# Altium schematic symbol library IMU_REV_C.SCHLIB: 11 symbols
Pins are listed as number, name and electrical type; pins without a type are passive.

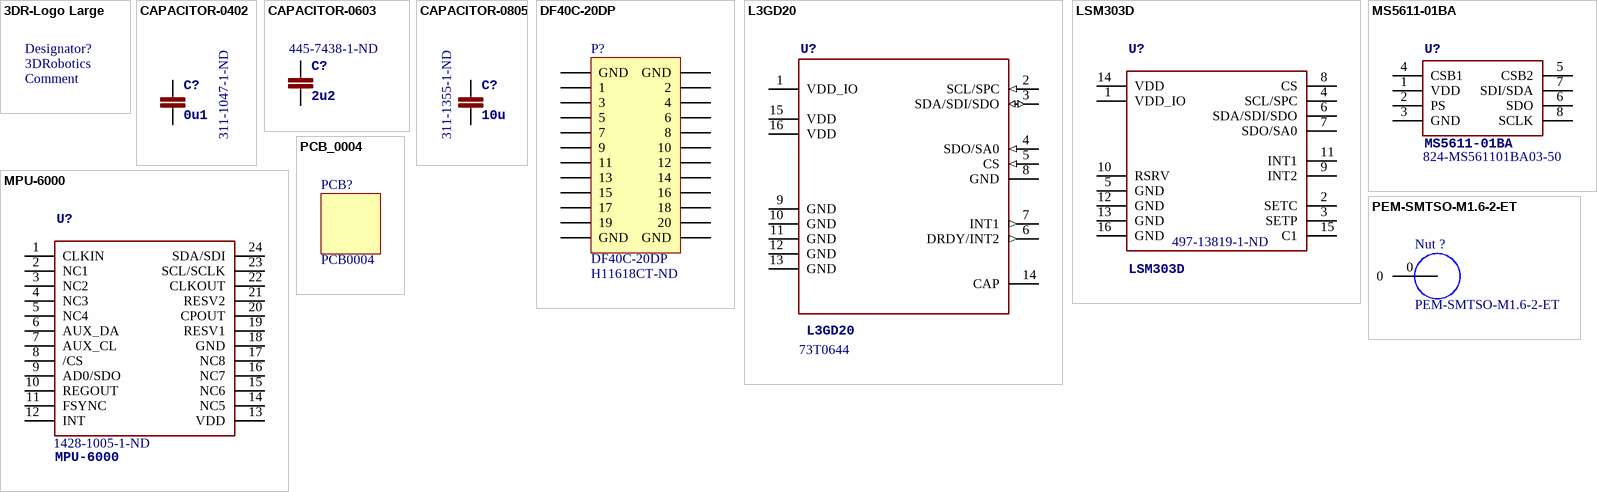
[diagram p0: symbols 3DR-Logo Large to PEM-SMTSO-M1.6-2-ET]

## 3DR-Logo Large
designator Designator?, comment Comment
PARTNO: DO NOT FIT
footprint 3DR-WORDMARK-LARGE
footprint 3DR_SMALL
text: 3DRobotics

## CAPACITOR-0402
designator C?, comment 0u1  Supplier Part Number 1: 311-1047-1-ND
Capacitor, 0.1uF, 16V, Y5V, 0402, Ceramic; PARTNO: CC0402ZRY5V7BB104; 3DR_PARTNO: ECM0700; Supplier 1: Digi-Key; Value: 0u1
footprint 0402-CAP
pins: P$1 1, P$2 2

## CAPACITOR-0603
designator C?, comment 2u2  Supplier Part Number 1: 445-7438-1-ND
Capacitor, 2.2uF, 16V, 10%, X6S, 0603, Ceramic; PARTNO: C1608X6S1C225K080AC; 3DR_PARTNO: ECM0619; Supplier 1: Digi-Key; Value: 2u2
footprint 0603-CAP
pins: P$1 1, P$2 2

## CAPACITOR-0805
designator C?, comment 10u  Supplier Part Number 1: 311-1355-1-ND
Capacitor, 10uF, 10V, Y5V, 0805, Ceramic; PARTNO: CC0805ZKY5V6BB106; 3DR_PARTNO: ECM0713; Supplier 1: Digi-Key; Value: 10u
footprint 0805-CAP
pins: P$1 1, P$2 2

## DF40C-20DP
designator P?  Supplier Part Number 1: H11618CT-ND
Connector, HDR, 20Pos, 0.4mm, SMD, GOLD; 3DR_PARTNO: ECM0510; Value: DF40C-20DP-0.4V(51); LatestRevisionDate: 17-Jul-2002; LatestRevisionNote: Re-released for DXP Platform.; Publisher: Altium Limited; Supplier 1: Digi-Key
signal-integrity model Connector
footprint DF40C-20-DP
pins: 1, 2, 3, 4, 5, 6, 7, 8, 9, 10, 11, 12, 13, 14, 15, 16, 17, 18, 19, 20, 21 GND, 22 GND, 23 GND, 24 GND

## L3GD20
designator U?  Supplier Part Number 1: 73T0644
Sensor, Low-power, Three-axis, Angular rate; 3DR_PARTNO: ECM0827; MFGPN: L3GD20; Supplier 1: Newark
footprint L3GD20 (4x4x1)
pins: 1 VDD_IO (power), 2 SCL/SPC (in), 3 SDA/SDI/SDO (io), 4 SDO/SA0 (in), 5 CS (in), 6 DRDY/INT2 (out), 7 INT1 (out), 8 GND (power), 9 GND (power), 10 GND (power), 11 GND (power), 12 GND (power), 13 GND (power), 14 CAP, 15 VDD (power), 16 VDD (power)

## LSM303D
designator U?  Supplier Part Number 1: 497-13819-1-ND
Module, 3D Accelerometer, 3D Magnetometer; 3DR_PARTNO: ECM0828; DATASHEET: http://www.st.com/internet/com/TECHNICAL_RESOURCES/TECHNICAL_LITERATURE/DATASHEET/DM00057547.pdf; LINK: http://www.st.com/internet/analog/product/253884.jsp; MFGPN: LSM303D; Supplier 1: Digi-Key
footprint LSM303D (LGA-16L)
pins: 1 VDD_IO, 2 SETC, 3 SETP, 4 SCL/SPC, 5 GND, 6 SDA/SDI/SDO, 7 SDO/SA0, 8 CS, 9 INT2, 10 RSRV, 11 INT1, 12 GND, 13 GND, 14 VDD, 15 C1, 16 GND

## MPU-6000
designator U?  Supplier Part Number 1: 1428-1005-1-ND
3 Axis Accel, 3Axis Gyro; 3DR_PARTNO: ECM0834; DATASHEET: http://invensense.com/mems/gyro/documents/PS-MPU-6000A-00_v1.0.pdf; LINK: http://invensense.com/mems/gyro/mpu6000.html; MFGPN: MPU-6000; Supplier 1: Digi-Key
footprint QFN-24
pins: 1 CLKIN, 2 NC1, 3 NC2, 4 NC3, 5 NC4, 6 AUX_DA, 7 AUX_CL, 8 /CS, 9 AD0/SDO, 10 REGOUT, 11 FSYNC, 12 INT, 13 VDD, 14 NC5, 15 NC6, 16 NC7, 17 NC8, 18 GND, 19 RESV1, 20 CPOUT, 21 RESV2, 22 CLKOUT, 23 SCL/SCLK, 24 SDA/SDI

## MS5611-01BA
designator U?  Supplier Part Number 1: 824-MS561101BA03-50
Board, Digital pressure sensor I2C/SPI; 3DR_PARTNO: ECM0835; DATASHEET: http://www.meas-spec.com/downloads/MS5611-01BA01.pdf; LINK: http://www.meas-spec.com/product/t_product.aspx?id=8503#; MFGPN: MS5611-01BA; PARTNO: MS5611-01BA; Supplier 1: Mouser
footprint MS5611-01BA
pins: 1 VDD, 2 PS, 3 GND, 4 CSB1, 5 CSB2, 6 SDO, 7 SDI/SDA, 8 SCLK

## PCB_0004
designator PCB?, comment PCB0004
IMU PCB; 3DR_PARTNO: PCB0004; Value: PCB0004

## PEM-SMTSO-M1.6-2-ET
designator Nut ?
Fastener, M1.6x2mm, SMTSO, Carbon Steel; Mfg Part Num (Alternate): Check; Manufacturer 1: PennEngineering; 3DR_PARTNO: PRT0438; Manufacturer Part Number 1: PEM-SMTSO-M1.6-2-ET; Supplier Unit Price 1: 0.7; Supplier Part Number 1: PEM-SMTSO-M1.6-2-ET; Supplier 1: PennEngineering
footprint PEM-SMTSO-M1.6-2-ET (Surface mount thread)
pins: 0